# EAGLE library part AP6502 (library IC)
Switching Regulator
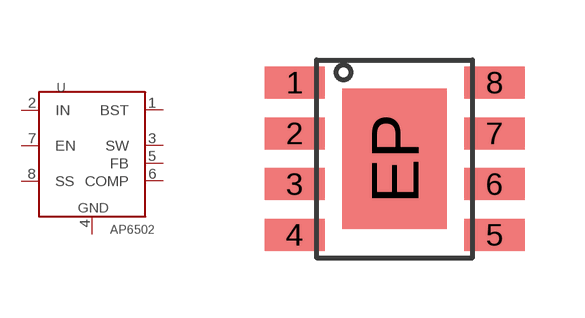
[diagram p4: symbol with the pads of SO-8EP; footprint SO-8EP]

Designator prefix U

## AP6502  [SO-8EP]
1  BST
2  IN
3  SW
4  GND
5  FB
6  COMP
7  EN
8  SS

## Footprint SO-8EP (pad centres in mm)
smd 1.505 x 0.802: 1 -2.498,1.905; 2 -2.498,0.635; 3 -2.498,-0.635; 4 -2.498,-1.905; 5 2.498,-1.905; 6 2.498,-0.635; 7 2.498,0.635; 8 2.498,1.905
smd 2.613 x 3.502: EP 0,0